# Altium schematic symbol library snowflake.SchLib: 9 symbols
Pins are listed as number, name and electrical type; pins without a type are passive.

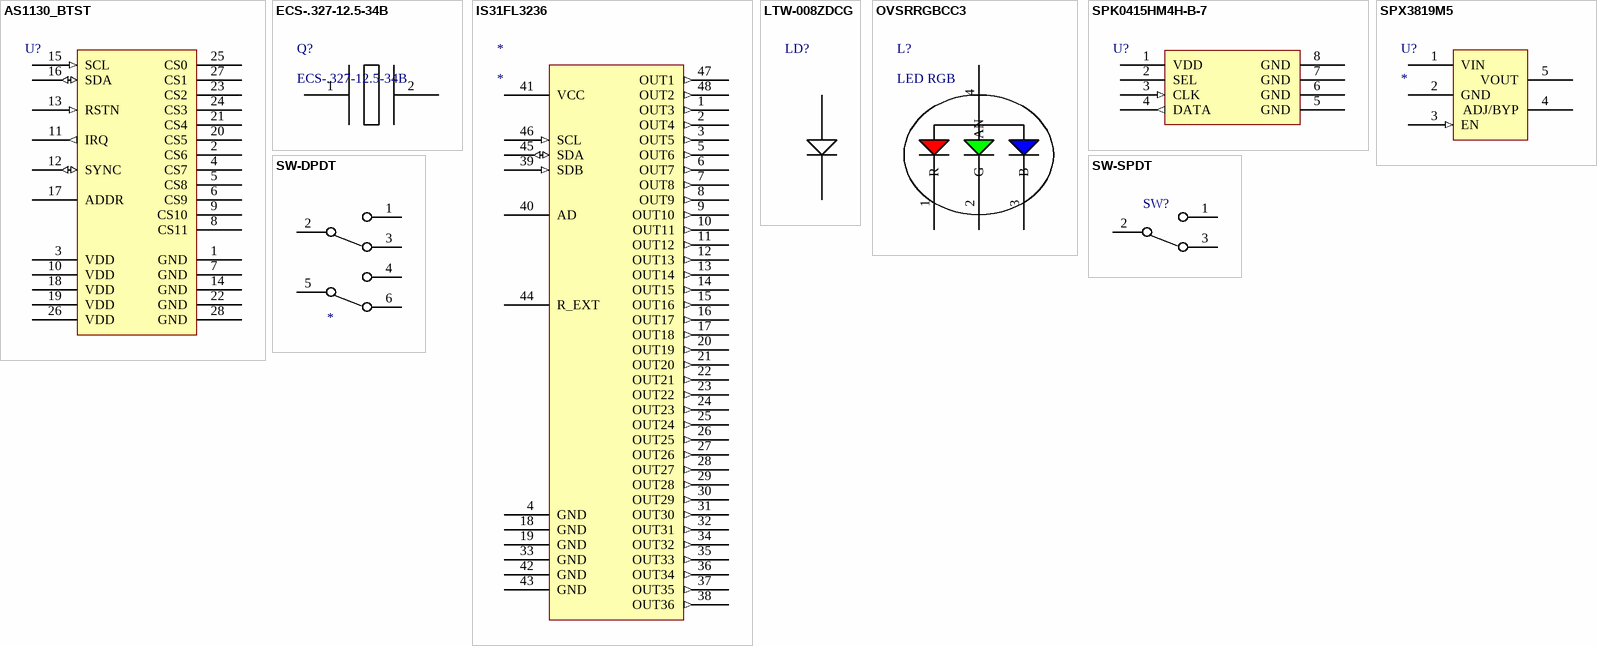
[diagram p0: symbols AS1130_BTST to SW-SPDT]

## AS1130_BTST
designator U?  (value not drawn)
IC LED DRVR MATRIX 28TSSOP
footprint TSOP65P640X120-28N (TSOP, 28-Leads, Body 9.70x4.40mm, Pitch 0.65mm, IPC Medium Density)
pins: 1 GND (power), 2 CS6, 3 VDD (power), 4 CS7, 5 CS8, 6 CS9, 7 GND (power), 8 CS11, 9 CS10, 10 VDD (power), 11 IRQ (out), 12 SYNC (io), 13 RSTN (in), 14 GND (power), 15 SCL (in), 16 SDA (io), 17 ADDR, 18 VDD (power), 19 VDD (power), 20 CS5, 21 CS4, 22 GND (power), 23 CS2, 24 CS3, 25 CS0, 26 VDD (power), 27 CS1, 28 GND (power)

## ECS-.327-12.5-34B
designator Q?
XTAL 32.768KHZ 12.5PF SMD
footprint ECX-31B (XTAL SMD)
pins: 1, 2

## IS31FL3236
designator *
footprint CQFP50P900X900X120-48N (CQFP, 48-Leads, Body 9.00x9.00mm, Pitch 0.50mm, IPC Medium Density)
pins: 1 OUT3 (out), 2 OUT4 (out), 3 OUT5 (out), 4 GND (power), 5 OUT6 (out), 6 OUT7 (out), 7 OUT8 (out), 8 OUT9 (out), 9 OUT10 (out), 10 OUT11 (out), 11 OUT12 (out), 12 OUT13 (out), 13 OUT14 (out), 14 OUT15 (out), 15 OUT16 (out), 16 OUT17 (out), 17 OUT18 (out), 18 GND (power), 19 GND (power), 20 OUT19 (out), 21 OUT20 (out), 22 OUT21 (out), 23 OUT22 (out), 24 OUT23 (out), 25 OUT24 (out), 26 OUT25 (out), 27 OUT26 (out), 28 OUT27 (out), 29 OUT28 (out), 30 OUT29 (out), 31 OUT30 (out), 32 OUT31 (out), 33 GND (power), 34 OUT32 (out), 35 OUT33 (out), 36 OUT34 (out), 37 OUT35 (out), 38 OUT36 (out), 39 SDB (in), 40 AD, 41 VCC (power), 42 GND (power), 43 GND (power), 44 R_EXT, 45 SDA (io), 46 SCL (in), 47 OUT1 (out), 48 OUT2 (out)

## LTW-008ZDCG
designator LD?  (value not drawn)
LED WHITE 2SMD R/A
footprint LTW-008ZDCG (LED WHITE 2SMD R/A)
pins: 1 A "Cathode", 2 K "Anode"

## OVSRRGBCC3
designator L?, comment LED RGB
OVSRRGBCC3
footprint OVSRRGBCC3 RA (TT elect OVSRRGBCC3 right-angle config)
pins: 1 R "red cathode", 2 G "green cathode", 3 B "blue cathode", 4 AN "common anode"

## SPK0415HM4H-B-7
designator U?  (value not drawn)
MIC MEMS DIGITAL PDM OMNI -26DB
footprint SPK0415HM4H-B-7 (MIC MEMS DIGITAL PDM OMNI -26DB)
pins: 1 VDD (power), 2 SEL, 3 CLK (in), 4 DATA (out), 5 GND (power), 6 GND (power), 7 GND (power), 8 GND (power)

## SPX3819M5
designator U?
footprint SOT95P280X145-5N (SOT23, 5-Leads, Body 2.90x2.80mm, Pitch 0.95mm, IPC Medium Density)
pins: 1 VIN (power), 2 GND (power), 3 EN (in), 4 ADJ/BYP, 5 VOUT (power)

## SW-DPDT
designator ?
SWITCH DPDT PCB
footprint JS202011CQN (SWITCH SLIDE DPDT 300MA 6V)
pins: 1 B1, 2, 3 A1, 4, 5 C2, 6

## SW-SPDT
designator SW?  (value not drawn)
SWITCH SPDT PCB
footprint JS102011JCQN (SWITCH SLIDE SPDT 300MA 6V)
pins: 1 B1, 2, 3 A1